# Altium footprint library Titanium_v0.1.PcbLib: 22 footprints (part 1 of 2)
Each footprint in its own frame and in the unit in brackets; x right, y up, seen from the top. Pads: shape width x height; smd on the part's side, far side on the other; paste and mask are expansions set on the pad; w line width, h text height; cw(c..) or ccw(c..) is an arc to the next point about the centre after c.
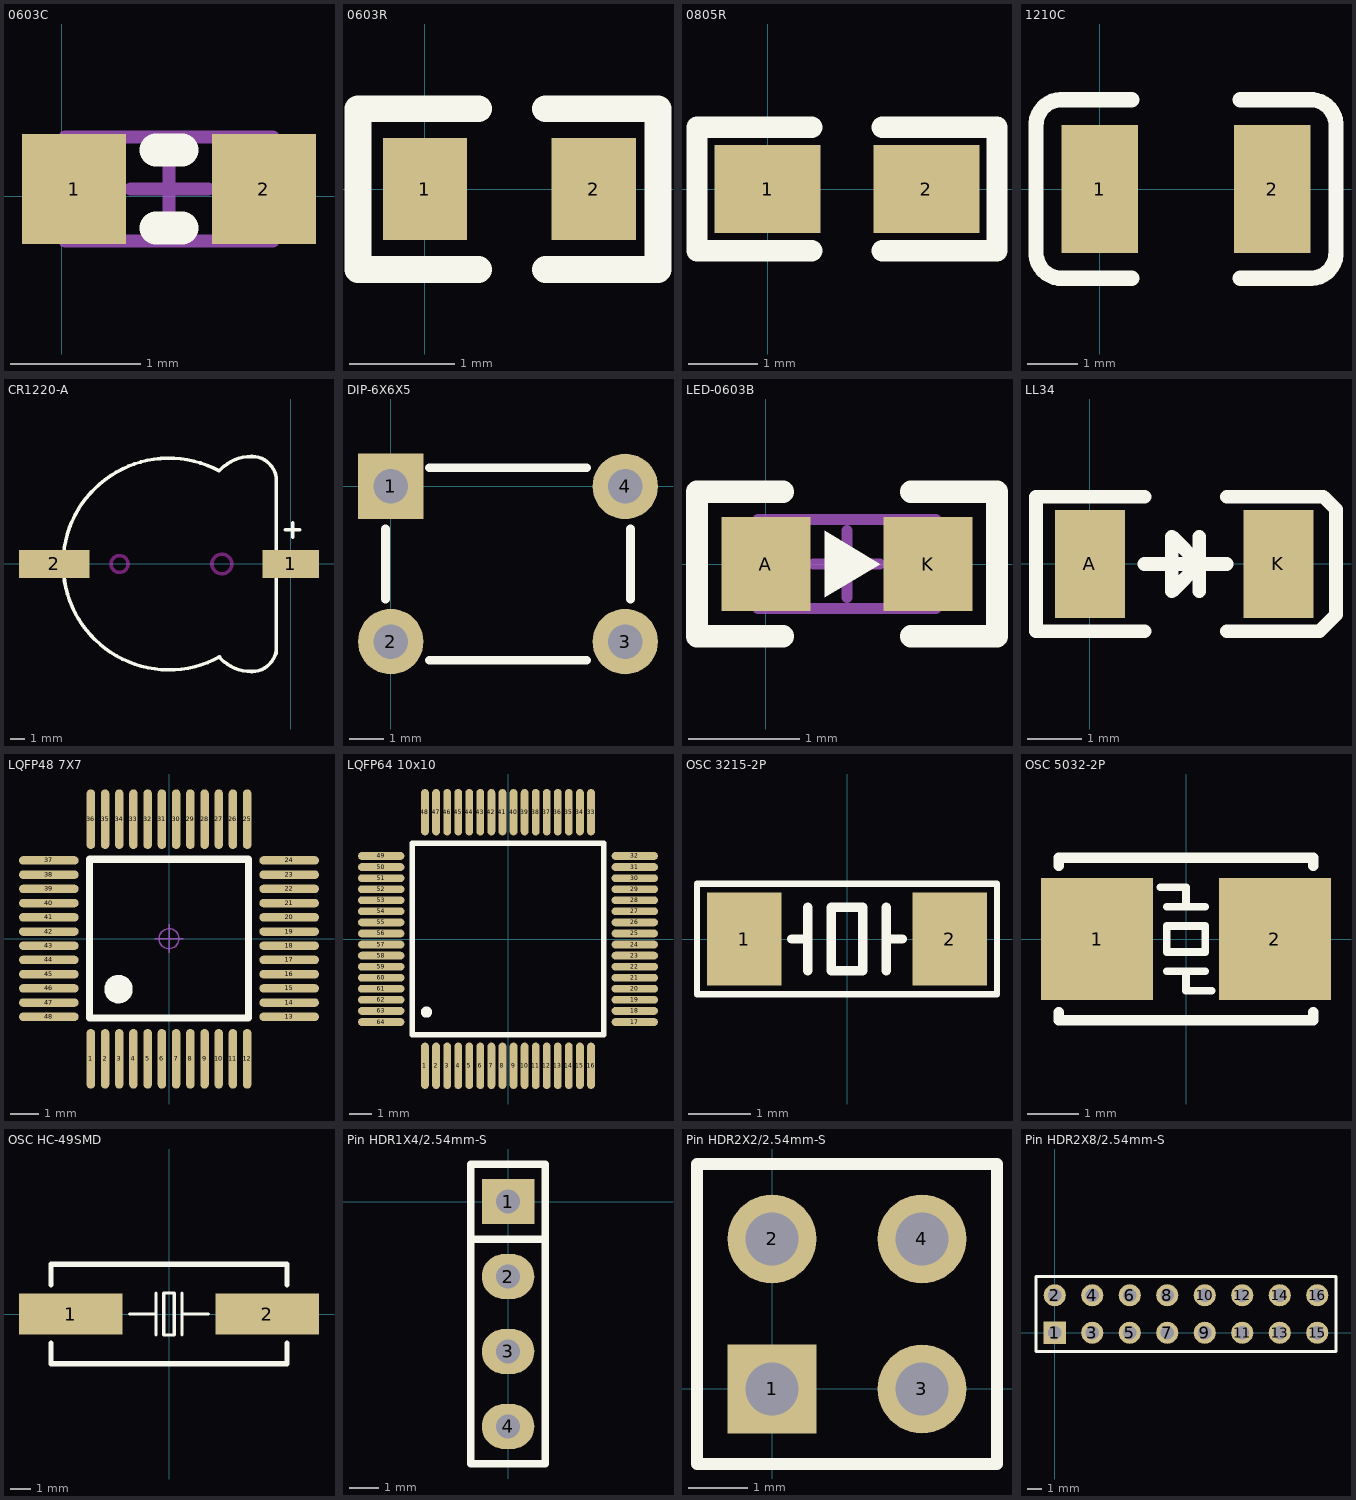
[diagram p0: the footprints below, top view; thin cyan lines are the x and y axes]

## 0603C [mm]
height 2.2
pads (2):
  rect 0.8x0.85 smd: 1(0.094,0.057) 2(1.554,0.057)
Top Overlay:
  lines w0.254: 0.724,-0.243 0.924,-0.243 ; 0.724,0.357 0.924,0.357
Mechanical 15:
  lines w0.1: 0.527,0.057 1.127,0.057 ; 0.824,-0.243 0.824,0.357 ; 0.024,-0.343 1.624,-0.343 1.624,0.457 0.024,0.457 0.024,-0.343
3D body "RESC1608(0603).STEP": height 0.38, standoff 0, extent 0.024,-0.343 1.624,0.457

## 0603R [mm]
height 2.2
pads (2):
  rect 0.8x0.965 smd: 1(0,0) 2(1.6,0)
Top Overlay:
  lines w0.254: 0.508,-0.762 -0.635,-0.762 -0.635,0.762 0.508,0.762 ; 1.143,-0.762 2.21,-0.762 2.21,0.762 1.143,0.762
3D body "RES0603.STEP": height 0.45, standoff 0, extent -0.038,-0.41 1.562,0.41

## 0805R [mil]
height 86.61
pads (2):
  rect 60x50 smd: 1(0,0) 2(90,0)
Top Overlay:
  lines w12: 25,-35 -40,-35 -40,35 25,35 ; 65,-35 130,-35 130,35 65,35
3D body "RES0805.STEP": height 15, standoff -1.14, extent 1.26,-24.6 80,24.61

## 1210C [mil]
height 86.61
pads (2):
  rect 60x100 smd: 1(0,0) 2(135,0)
Top Overlay:
  lines w12: -28.95,-69.97 cw(c-30,-50) -49.97,-51.05 -49.97,48.95 cw(c-30,50) -31.05,69.97 24.97,69.97 ; -28.92,-70 25,-70 ; 110,-70 166.02,-70 ; 110,70 163.92,70 ; 163.95,69.97 cw(c165,50) 184.97,51.05 184.97,-48.95 cw(c165,-50) 166.05,-69.97
3D body "1210 SMD Capacitor.STEP": height 67.1, standoff 0, extent -8.75,-49 148.75,49

## CR1220-A [mm]
height 2.2
pads (2):
  rect 4x2 smd: 1(0,0)
  rect 5x2 smd: 2(-16.764,0)
Top Overlay:
  lines w0.254: -5.08,-6.604 -4.962,-6.722 ccw(c-2.794,-4.554) -2.794,-7.62 -2.75,-7.62 ccw(c-2.75,-5.886) -1.524,-7.112 ccw(c-2.75,-5.886) -1.016,-5.886 ; -5.039,-6.582 cw(c-8.636,0) -5.08,6.604 -4.962,6.722 cw(c-2.794,4.554) -2.794,7.62 -2.75,7.62 cw(c-2.75,5.886) -1.524,7.112 cw(c-2.75,5.886) -1.016,5.886 -1.016,1.016 ; -1.016,-6.35 -1.016,-6.096 -1.016,-1.016 ; -0.381,2.413 0.635,2.413 ; 0.127,1.905 0.127,2.921
Keep-Out Layer:
  circle w0.254: c-12.136,0 r0.6
  circle w0.254: c-4.886,0 r0.7
3D body "CR1220-A.STEP": height 4.05, standoff -0.85, extent -18.768,-7.366 0.988,7.534

## DIP-6X6X5 [mm]
pads (4):
  rect 1.9x1.9 hole 1: 1(0,0)
  round 1.9 hole 1: 2(0,-4.5) 3(6.8,-4.5) 4(6.8,0)
Top Overlay:
  lines w0.254: -0.156,-3.266 -0.156,-1.234 ; 1.114,-5.044 5.686,-5.044 ; 1.114,0.544 5.686,0.544 ; 6.956,-3.266 6.956,-1.234
3D body "DIP-6X6X5.STEP": height 4.95, standoff -3.45, extent -0.804,-5.238 7.408,0.762

## LED-0603B [mm]
height 2.2
pads (2):
  rect 0.8x0.85 smd: A(0,0) K(1.46,0)
Top Overlay:
  region: 1.03,0 0.53,0.3 0.53,-0.3
  lines w0.2: 0.155,-0.65 -0.62,-0.65 -0.62,0.65 0.155,0.65 ; 1.305,-0.65 2.08,-0.65 2.08,0.65 1.305,0.65
Mechanical 15:
  lines w0.1: 0.427,0 1.027,0 ; 0.73,-0.3 0.73,0.3 ; -0.07,-0.4 1.53,-0.4 1.53,0.4 -0.07,0.4 -0.07,-0.4
3D body "LED0603(B).STEP": height 0.6, standoff 0, extent -0.08,-0.4 1.54,0.4

## LL34 [mm] "玻封二极管"
height 2.2
pads (2):
  rect 1.3x2 smd: A(0,0) K(3.5,0)
Top Overlay:
  lines w0.254: 1.016,-1.25 -1,-1.25 -1,1.25 1.016,1.25 ; 1.016,0 2.54,0 ; 2.032,-0.508 2.032,0.508 ; 2.54,-1.25 4.266,-1.25 ; 2.54,1.25 4.338,1.25 ; 3.556,-1.25 4.266,-1.25 ; 4.064,1.25 4.338,1.25 ; 4.266,-1.25 4.572,-0.944 ; 4.266,-1.25 4.572,-0.944 ; 4.338,1.25 4.572,1.016 4.572,-0.944 ; 1.524,-0.508 2.032,0 1.524,0.508 1.524,-0.508
3D body "SOD-80.STEP": height 1.5, standoff 0, extent -0.099,-0.75 3.401,0.75

## LQFP48 7X7 [mm]
height 2.2
pads (48):
  oval 0.3x2.1 smd: 1(-2.75,-4.227) 2(-2.25,-4.227) 3(-1.75,-4.227) 4(-1.25,-4.227) 5(-0.75,-4.227) 6(-0.25,-4.227) 7(0.25,-4.227) 8(0.75,-4.227) 9(1.25,-4.227) 10(1.75,-4.227) 11(2.25,-4.227) 12(2.75,-4.227) 25(2.75,4.202) 26(2.25,4.202) 27(1.75,4.202) 28(1.25,4.202) 29(0.75,4.202) 30(0.25,4.202) 31(-0.25,4.202) 32(-0.75,4.202) 33(-1.25,4.202) 34(-1.75,4.202) 35(-2.25,4.202) 36(-2.75,4.202)
  oval 2.1x0.3 smd: 13(4.227,-2.75) 14(4.227,-2.25) 15(4.227,-1.75) 16(4.227,-1.25) 17(4.227,-0.75) 18(4.227,-0.25) 19(4.227,0.25) 20(4.227,0.75) 21(4.227,1.25) 22(4.227,1.75) 23(4.227,2.25) 24(4.227,2.75) 37(-4.227,2.75) 38(-4.227,2.25) 39(-4.227,1.75) 40(-4.227,1.25) 41(-4.227,0.75) 42(-4.227,0.25) 43(-4.227,-0.25) 44(-4.227,-0.75) 45(-4.227,-1.25) 46(-4.227,-1.75) 47(-4.227,-2.25) 48(-4.227,-2.75)
Top Overlay:
  circle w0.5: c-1.778,-1.778 r0.25
  lines w0.254: -2.794,-2.794 -2.794,2.794 2.794,2.794 2.794,-2.794 -2.794,-2.794
Mechanical 15:
  circle w0.05: c0,0 r0.35
  lines w0.05: -0.5,0 0.5,0 ; 0,-0.5 0,0.5
3D body "LQFP48 7X7.STEP": height 1.45, standoff 0, extent -4.51,-4.503 4.496,4.503

## LQFP64 10x10 [mm]
pads (64):
  oval 0.35x2.1 smd: 1(-3.75,-5.727) 2(-3.25,-5.727) 3(-2.75,-5.727) 4(-2.25,-5.727) 5(-1.75,-5.727) 6(-1.25,-5.727) 7(-0.75,-5.727) 8(-0.25,-5.727) 9(0.25,-5.727) 10(0.75,-5.727) 11(1.25,-5.727) 12(1.75,-5.727) 13(2.25,-5.727) 14(2.75,-5.727) 15(3.25,-5.727) 16(3.75,-5.727) 33(3.75,5.727) 34(3.25,5.727) 35(2.75,5.727) 36(2.25,5.727) 37(1.75,5.727) 38(1.25,5.727) 39(0.75,5.727) 40(0.25,5.727) 41(-0.25,5.727) 42(-0.75,5.727) 43(-1.25,5.727) 44(-1.75,5.727) 45(-2.25,5.727) 46(-2.75,5.727) 47(-3.25,5.727) 48(-3.75,5.727)
  oval 2.1x0.35 smd: 17(5.727,-3.75) 18(5.727,-3.25) 19(5.727,-2.75) 20(5.727,-2.25) 21(5.727,-1.75) 22(5.727,-1.25) 23(5.727,-0.75) 24(5.727,-0.25) 25(5.727,0.25) 26(5.727,0.75) 27(5.727,1.25) 28(5.727,1.75) 29(5.727,2.25) 30(5.727,2.75) 31(5.727,3.25) 32(5.727,3.75) 49(-5.727,3.75) 50(-5.727,3.25) 51(-5.727,2.75) 52(-5.727,2.25) 53(-5.727,1.75) 54(-5.727,1.25) 55(-5.727,0.75) 56(-5.727,0.25) 57(-5.727,-0.25) 58(-5.727,-0.75) 59(-5.727,-1.25) 60(-5.727,-1.75) 61(-5.727,-2.25) 62(-5.727,-2.75) 63(-5.727,-3.25) 64(-5.727,-3.75)
Top Overlay:
  circle w0.254: c-3.683,-3.302 r0.127
  lines w0.254: -4.318,-4.318 4.318,-4.318 4.318,4.318 -4.318,4.318 -4.318,-4.318
3D body "LQFP64 10x10.STEP": height 1.45, standoff 0, extent -6.003,-5.986 6.003,6.02

## OSC 3215-2P [mm]
pads (2):
  rect 1.2x1.5 smd: 1(-1.65,0) 2(1.65,0)
Top Overlay:
  lines w0.1: -2.413,-0.889 2.413,-0.889 2.413,0.889 -2.413,0.889 -2.413,-0.889
  lines w0.152: -0.889,0 -0.635,0 ; -0.635,-0.508 -0.635,0.508 ; 0.635,-0.508 0.635,0.508 ; 0.635,0 0.889,0 ; -0.254,-0.508 -0.254,0.508 0.254,0.508 0.254,-0.508 -0.254,-0.508
3D body "OSC 3215-2P.STEP": height 0.61, standoff -0.01, extent -1.473,-0.762 1.727,0.738

## OSC 5032-2P [mm]
height 2.2
pads (2):
  rect 2.2x2.4 smd: 1(-1.75,0) 2(1.75,0)
Top Overlay:
  lines w0.152: -0.508,1.016 0,1.016 0,0.635 ; -0.381,-0.635 0.381,-0.635 ; -0.381,0.635 0.381,0.635 ; 0,-0.635 0,-1.016 0.381,-1.016 0.508,-1.016 ; -0.381,-0.254 -0.381,0.254 0.381,0.254 0.381,-0.254 -0.381,-0.254
  lines w0.203: -2.5,-1.437 -2.5,-1.6 2.5,-1.6 2.5,-1.437 ; -2.5,1.437 -2.5,1.6 2.5,1.6 2.5,1.437
3D body "OSC 5032-2P.STEP": height 0.86, standoff 0.04, extent -2.5,-1.524 2.5,1.676

## OSC HC-49SMD [mm]
pads (2):
  rect 5x2 smd: 1(-4.75,0) 2(4.75,0)
Top Overlay:
  lines w0.152: -1.905,0 -0.635,0 ; -0.635,-1.016 -0.635,1.016 ; 0.635,-1.016 0.635,1.016 ; 0.635,0 1.905,0 ; -0.254,-1.016 -0.254,1.016 0.254,1.016 0.254,-1.016 -0.254,-1.016
  lines w0.254: -5.7,-1.397 -5.7,-2.4 5.7,-2.4 5.7,-1.397 ; -5.7,1.397 -5.7,2.4 5.7,2.4 5.7,1.397
3D body "OSC HC-49SMD.STEP": height 4.63, standoff 0.05, extent -6.373,-2.413 6.627,2.237

## Pin HDR1X4/2.54mm-S [mil]
height 86.61
pads (4):
  rect 70x60 hole 32: 1(0,0)
  oval 70x60 hole 32: 2(0,-100) 3(0,-200) 4(0,-300)
Top Overlay:
  lines w10: -50,-50 50,-50 ; -50,-350 -50,50 50,50 50,-350 -50,-350
3D body "1001-4.STEP": height 336.22, standoff -118.11, extent -49.99,-350 50.01,50

## Pin HDR2X2/2.54mm-S [mm] "Connector; Header; 2x2 Position"
height 2.2
pads (4):
  rect 1.5x1.5 hole 0.9: 1(0,0)
  round 1.5 hole 0.9: 2(0,2.54) 3(2.54,0) 4(2.54,2.54)
Top Overlay:
  lines w0.2: -1.27,-1.27 -1.27,3.81 3.81,3.81 3.81,-1.27 -1.27,-1.27
3D body "HEADER.STEP": height 7.58, standoff -2.94, extent -1.27,-1.27 1.27,1.27
3D body "HEADER.STEP": height 7.58, standoff -2.94, extent 1.27,-1.27 3.81,1.27
3D body "HEADER.STEP": height 7.58, standoff -2.94, extent -1.27,1.27 1.27,3.81
3D body "HEADER.STEP": height 7.58, standoff -2.94, extent 1.27,1.27 3.81,3.81

## Pin HDR2X8/2.54mm-S [mm] "Connector; Header; 8x2 Position"
height 2.2
pads (16):
  rect 1.5x1.5 hole 0.9: 1(0,0)
  round 1.5 hole 0.9: 2(0,2.54) 3(2.54,0) 4(2.54,2.54) 5(5.08,0) 6(5.08,2.54) 7(7.62,0) 8(7.62,2.54) 9(10.16,0) 10(10.16,2.54) 11(12.7,0) 12(12.7,2.54) 13(15.24,0) 14(15.24,2.54) 15(17.78,0) 16(17.78,2.54)
Top Overlay:
  lines w0.2: -1.27,-1.27 -1.27,3.81 19.05,3.81 19.05,-1.27 -1.27,-1.27
3D body "HEADER.STEP": height 7.58, standoff -2.94, extent -1.27,-1.27 1.27,1.27
3D body "HEADER.STEP": height 7.58, standoff -2.94, extent -1.27,1.27 1.27,3.81
3D body "HEADER.STEP": height 7.58, standoff -2.94, extent 1.27,-1.27 3.81,1.27
3D body "HEADER.STEP": height 7.58, standoff -2.94, extent 1.27,1.27 3.81,3.81
3D body "HEADER.STEP": height 7.58, standoff -2.94, extent 3.81,-1.27 6.35,1.27
3D body "HEADER.STEP": height 7.58, standoff -2.94, extent 3.81,1.27 6.35,3.81
3D body "HEADER.STEP": height 7.58, standoff -2.94, extent 6.35,-1.27 8.89,1.27
3D body "HEADER.STEP": height 7.58, standoff -2.94, extent 6.35,1.27 8.89,3.81
3D body "HEADER.STEP": height 7.58, standoff -2.94, extent 8.89,-1.27 11.43,1.27
3D body "HEADER.STEP": height 7.58, standoff -2.94, extent 8.89,1.27 11.43,3.81
3D body "HEADER.STEP": height 7.58, standoff -2.94, extent 11.43,-1.27 13.97,1.27
3D body "HEADER.STEP": height 7.58, standoff -2.94, extent 11.43,1.27 13.97,3.81
3D body "HEADER.STEP": height 7.58, standoff -2.94, extent 13.97,-1.27 16.51,1.27
3D body "HEADER.STEP": height 7.58, standoff -2.94, extent 13.97,1.27 16.51,3.81
3D body "HEADER.STEP": height 7.58, standoff -2.94, extent 16.51,-1.27 19.05,1.27
3D body "HEADER.STEP": height 7.58, standoff -2.94, extent 16.51,1.27 19.05,3.81